# EAGLE library part XBEEPRO (library modules)
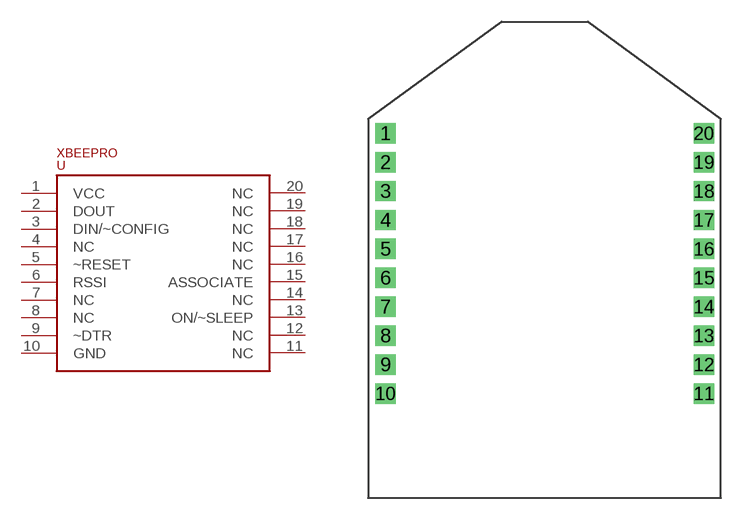
[diagram p0: symbol with the pads of XBEEPRO; footprint XBEEPRO]

Designator prefix U

## XBEEPRO  [XBEEPRO]
1  VCC
2  DOUT
3  DIN/~CONFIG
4  NC
5  ~RESET
6  RSSI
7  NC
8  NC
9  ~DTR
10  GND
11  NC
12  NC
13  ON/~SLEEP
14  NC
15  ASSOCIATE
16  NC
17  NC
18  NC
19  NC
20  NC

## Footprint XBEEPRO (pad centres in mm)
drill 0.9 square: 1 0,0; 2 0,-2; 3 0,-4; 4 0,-6; 5 0,-8; 6 0,-10; 7 0,-12; 8 0,-14; 9 0,-16; 10 0,-18; 11 22,-18; 12 22,-16; 13 22,-14; 14 22,-12; 15 22,-10; 16 22,-8; 17 22,-6; 18 22,-4; 19 22,-2; 20 22,0